# EAGLE library part LPC1768FBD100,551 (library LPC1768)
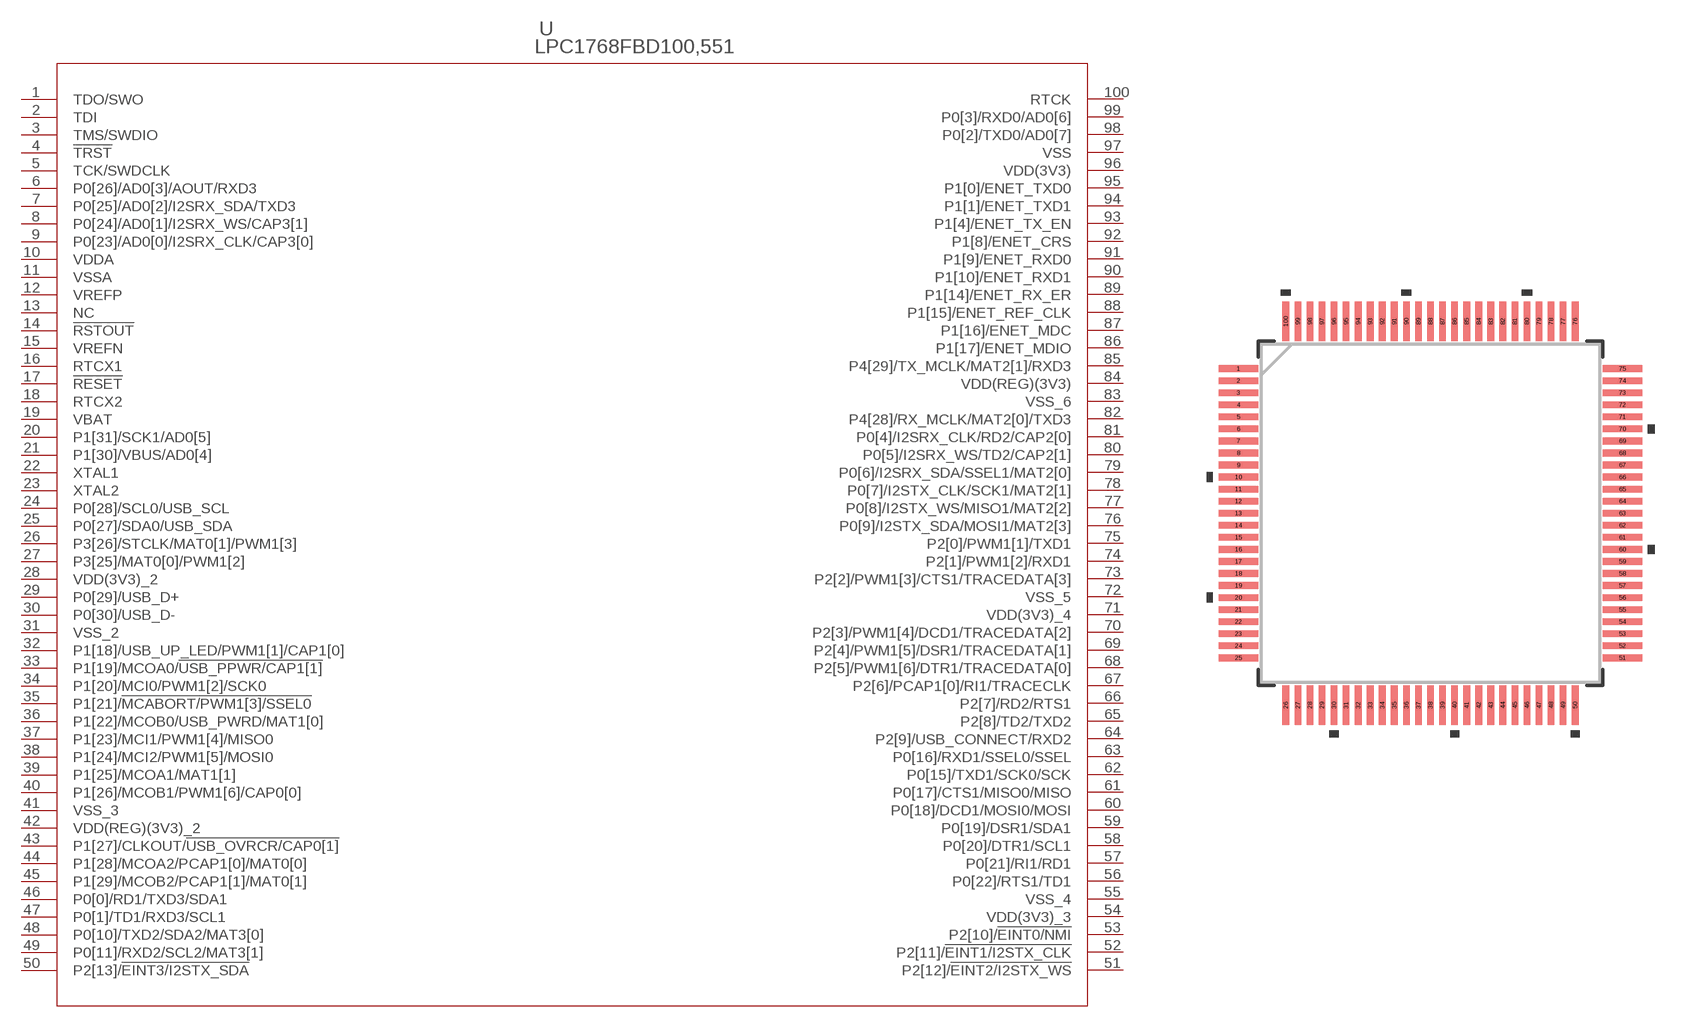
[diagram p0: symbol with the pads of LQFP100_14X14_NXP; footprint LQFP100_14X14_NXP]

Designator prefix U

## LPC1768FBD100,551 (BUILT_BY: EMA_Jessica; COPYRIGHT: Copyright (C) 2016 Accelerated Designs. All rights reserved; MANUFACTURER_PART_NUMBER: LPC1768FBD100,551; SOURCELIBRARY: NXP_2018-12-15; VENDOR: NXP)  [LQFP100_14X14_NXP]
1  TDO/SWO  out
2  TDI  in
3  TMS/SWDIO
4  !TRST  in
5  TCK/SWDCLK  in
6  P0[26]/AD0[3]/AOUT/RXD3
7  P0[25]/AD0[2]/I2SRX_SDA/TXD3
8  P0[24]/AD0[1]/I2SRX_WS/CAP3[1]
9  P0[23]/AD0[0]/I2SRX_CLK/CAP3[0]
10  VDDA  pwr
11  VSSA  pwr
12  VREFP  pwr
13  NC  nc
14  !RSTOUT  out
15  VREFN  in
16  RTCX1  in
17  !RESET  in
18  RTCX2  out
19  VBAT  in
20  P1[31]/SCK1/AD0[5]
21  P1[30]/VBUS/AD0[4]
22  XTAL1  in
23  XTAL2  out
24  P0[28]/SCL0/USB_SCL
25  P0[27]/SDA0/USB_SDA
26  P3[26]/STCLK/MAT0[1]/PWM1[3]
27  P3[25]/MAT0[0]/PWM1[2]
28  VDD(3V3)_2  pwr
29  P0[29]/USB_D+
30  P0[30]/USB_D-
31  VSS_2  pwr
32  P1[18]/USB_UP_LED/PWM1[1]/CAP1[0]
33  P1[19]/MCOA0/!USB_PPWR/CAP1[1]
34  P1[20]/MCI0/PWM1[2]/SCK0
35  P1[21]/!MCABORT/PWM1[3]/SSEL0
36  P1[22]/MCOB0/USB_PWRD/MAT1[0]
37  P1[23]/MCI1/PWM1[4]/MISO0
38  P1[24]/MCI2/PWM1[5]/MOSI0
39  P1[25]/MCOA1/MAT1[1]
40  P1[26]/MCOB1/PWM1[6]/CAP0[0]
41  VSS_3  pwr
42  VDD(REG)(3V3)_2  pwr
43  P1[27]/CLKOUT/!USB_OVRCR/CAP0[1]
44  P1[28]/MCOA2/PCAP1[0]/MAT0[0]
45  P1[29]/MCOB2/PCAP1[1]/MAT0[1]
46  P0[0]/RD1/TXD3/SDA1
47  P0[1]/TD1/RXD3/SCL1
48  P0[10]/TXD2/SDA2/MAT3[0]
49  P0[11]/RXD2/SCL2/MAT3[1]
50  P2[13]/!EINT3/I2STX_SDA
51  P2[12]/!EINT2/I2STX_WS
52  P2[11]/!EINT1/I2STX_CLK
53  P2[10]/!EINT0/NMI
54  VDD(3V3)_3  pwr
55  VSS_4  pwr
56  P0[22]/RTS1/TD1
57  P0[21]/RI1/RD1
58  P0[20]/DTR1/SCL1
59  P0[19]/DSR1/SDA1
60  P0[18]/DCD1/MOSI0/MOSI
61  P0[17]/CTS1/MISO0/MISO
62  P0[15]/TXD1/SCK0/SCK
63  P0[16]/RXD1/SSEL0/SSEL
64  P2[9]/USB_CONNECT/RXD2
65  P2[8]/TD2/TXD2
66  P2[7]/RD2/RTS1
67  P2[6]/PCAP1[0]/RI1/TRACECLK
68  P2[5]/PWM1[6]/DTR1/TRACEDATA[0]
69  P2[4]/PWM1[5]/DSR1/TRACEDATA[1]
70  P2[3]/PWM1[4]/DCD1/TRACEDATA[2]
71  VDD(3V3)_4  pwr
72  VSS_5  pwr
73  P2[2]/PWM1[3]/CTS1/TRACEDATA[3]
74  P2[1]/PWM1[2]/RXD1
75  P2[0]/PWM1[1]/TXD1
76  P0[9]/I2STX_SDA/MOSI1/MAT2[3]
77  P0[8]/I2STX_WS/MISO1/MAT2[2]
78  P0[7]/I2STX_CLK/SCK1/MAT2[1]
79  P0[6]/I2SRX_SDA/SSEL1/MAT2[0]
80  P0[5]/I2SRX_WS/TD2/CAP2[1]
81  P0[4]/I2SRX_CLK/RD2/CAP2[0]
82  P4[28]/RX_MCLK/MAT2[0]/TXD3
83  VSS_6  pwr
84  VDD(REG)(3V3)  pwr
85  P4[29]/TX_MCLK/MAT2[1]/RXD3
86  P1[17]/ENET_MDIO
87  P1[16]/ENET_MDC
88  P1[15]/ENET_REF_CLK
89  P1[14]/ENET_RX_ER
90  P1[10]/ENET_RXD1
91  P1[9]/ENET_RXD0
92  P1[8]/ENET_CRS
93  P1[4]/ENET_TX_EN
94  P1[1]/ENET_TXD1
95  P1[0]/ENET_TXD0
96  VDD(3V3)  pwr
97  VSS  pwr
98  P0[2]/TXD0/AD0[7]
99  P0[3]/RXD0/AD0[6]
100  RTCK  out

## Footprint LQFP100_14X14_NXP (pad centres in mm)
smd 1.625 x 0.28: 1 -7.963,6; 2 -7.963,5.5; 3 -7.963,5; 4 -7.963,4.5; 5 -7.963,4; 6 -7.963,3.5; 7 -7.963,3; 8 -7.963,2.5; 9 -7.963,2; 10 -7.963,1.5; 11 -7.963,1; 12 -7.963,0.5; 13 -7.963,0; 14 -7.963,-0.5; 15 -7.963,-1; 16 -7.963,-1.5; 17 -7.963,-2; 18 -7.963,-2.5; 19 -7.963,-3; 20 -7.963,-3.5; 21 -7.963,-4; 22 -7.963,-4.5; 23 -7.963,-5; 24 -7.963,-5.5; 25 -7.963,-6; 51 7.963,-6; 52 7.963,-5.5; 53 7.963,-5; 54 7.963,-4.5; 55 7.963,-4; 56 7.963,-3.5; 57 7.963,-3; 58 7.963,-2.5; 59 7.963,-2; 60 7.963,-1.5; 61 7.963,-1; 62 7.963,-0.5; 63 7.963,0; 64 7.963,0.5; 65 7.963,1; 66 7.963,1.5; 67 7.963,2; 68 7.963,2.5; 69 7.963,3; 70 7.963,3.5; 71 7.963,4; 72 7.963,4.5; 73 7.963,5; 74 7.963,5.5; 75 7.963,6
smd 0.28 x 1.625: 26 -6,-7.963; 27 -5.5,-7.963; 28 -5,-7.963; 29 -4.5,-7.963; 30 -4,-7.963; 31 -3.5,-7.963; 32 -3,-7.963; 33 -2.5,-7.963; 34 -2,-7.963; 35 -1.5,-7.963; 36 -1,-7.963; 37 -0.5,-7.963; 38 0,-7.963; 39 0.5,-7.963; 40 1,-7.963; 41 1.5,-7.963; 42 2,-7.963; 43 2.5,-7.963; 44 3,-7.963; 45 3.5,-7.963; 46 4,-7.963; 47 4.5,-7.963; 48 5,-7.963; 49 5.5,-7.963; 50 6,-7.963; 76 6,7.963; 77 5.5,7.963; 78 5,7.963; 79 4.5,7.963; 80 4,7.963; 81 3.5,7.963; 82 3,7.963; 83 2.5,7.963; 84 2,7.963; 85 1.5,7.963; 86 1,7.963; 87 0.5,7.963; 88 0,7.963; 89 -0.5,7.963; 90 -1,7.963; 91 -1.5,7.963; 92 -2,7.963; 93 -2.5,7.963; 94 -3,7.963; 95 -3.5,7.963; 96 -4,7.963; 97 -4.5,7.963; 98 -5,7.963; 99 -5.5,7.963; 100 -6,7.963